# Altium integrated library Regulator_Linear.IntLib: 8 symbols
Pins are listed as number, name and electrical type; pins without a type are passive.

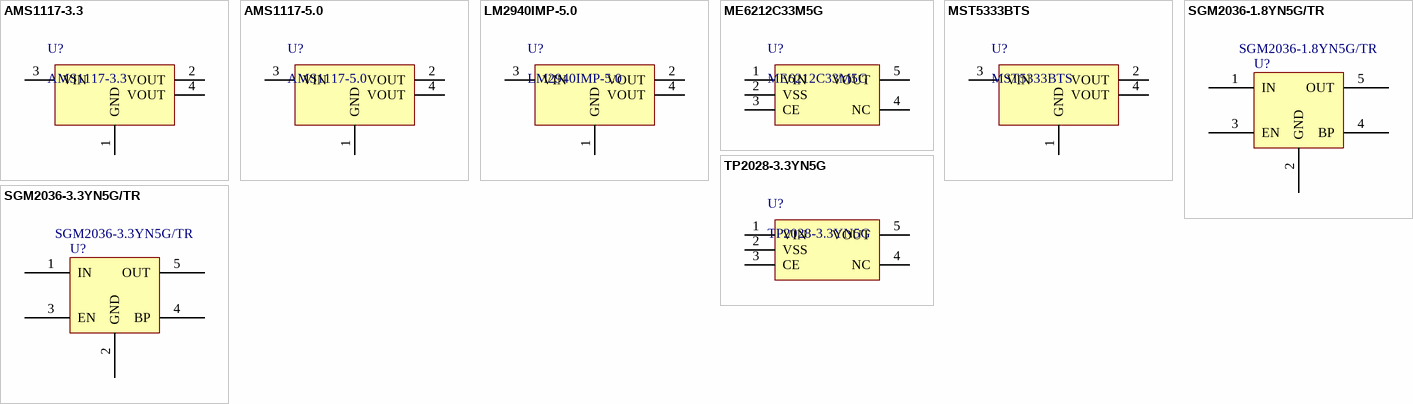
[diagram p0: symbols AMS1117-3.3 to TP2028-3.3YN5G]

## AMS1117-3.3
designator U?
1A LOW DROPOUT VOLTAGE REGULATOR
footprint SOT-89 (SOT89, 3-Leads, Body 4.50x2.45mm, Pitch 1.50mm, Lead Span 4.1mm, IPC Medium Density)
footprint SOT-223 (SOT223, 4-Leads, Body 6.50x7.00mm (avg), Pitch 2.30mm, IPC Medium Density)
pins: 1 GND, 2 VOUT, 3 VIN, 4 VOUT

## AMS1117-5.0
designator U?
1A LOW DROPOUT VOLTAGE REGULATOR
footprint SOT-89 (SOT89, 3-Leads, Body 4.50x2.45mm, Pitch 1.50mm, Lead Span 4.1mm, IPC Medium Density)
footprint SOT-223 (SOT223, 4-Leads, Body 6.50x7.00mm (avg), Pitch 2.30mm, IPC Medium Density)
pins: 1 GND, 2 VOUT, 3 VIN, 4 VOUT

## LM2940IMP-5.0
designator U?
LINEAR 5V 1A
footprint SOT-223 (SOT223, 4-Leads, Body 6.50x7.00mm (avg), Pitch 2.30mm, IPC Medium Density)
pins: 1 GND, 2 VOUT, 3 VIN, 4 VOUT

## ME6212C33M5G
designator U?
高精度、高纹波抑制比、低噪声、超快响应线性稳压器
footprint SOT-23-5 (SOT23, 5-Leads, Body 2.90x2.45mm, Pitch 0.95mm, IPC Medium Density)
pins: 1 VIN, 2 VSS, 3 CE, 4 NC, 5 VOUT

## MST5333BTS
designator U?
LOW DROPOUT VOLTAGE REGULATOR
footprint SOT-89 (SOT89, 3-Leads, Body 4.50x2.45mm, Pitch 1.50mm, Lead Span 4.1mm, IPC Medium Density)
pins: 1 GND, 2 VOUT, 3 VIN, 4 VOUT

## SGM2036-1.8YN5G/TR
designator U?
footprint SOT-23-5 (SOT23, 5-Leads, Body 2.90x2.45mm, Pitch 0.95mm, IPC Medium Density)
pins: 1 IN, 2 GND, 3 EN, 4 BP, 5 OUT

## SGM2036-3.3YN5G/TR
designator U?
footprint SOT-23-5 (SOT23, 5-Leads, Body 2.90x2.45mm, Pitch 0.95mm, IPC Medium Density)
pins: 1 IN, 2 GND, 3 EN, 4 BP, 5 OUT

## TP2028-3.3YN5G
designator U?
500mA Hight PSRR Voltage Reaulators
footprint SOT-23-5 (SOT23, 5-Leads, Body 2.90x2.45mm, Pitch 0.95mm, IPC Medium Density)
pins: 1 VIN, 2 VSS, 3 CE, 4 NC, 5 VOUT